# Altium schematic symbol library S8111-46R.SchLib: 1 symbol
Pins are listed as number, name and electrical type; pins without a type are passive.

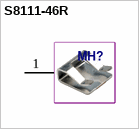
[diagram p0: symbol S8111-46R]

## S8111-46R
designator MH?  (value not drawn)
pins: 1